# Altium footprint library INDM1350X1250X650L275X470N.PcbLib: 1 footprints
Each footprint in its own frame and in the unit in brackets; x right, y up, seen from the top. Pads: shape width x height; smd on the part's side, far side on the other; paste and mask are expansions set on the pad; w line width, h text height; cw(c..) or ccw(c..) is an arc to the next point about the centre after c.
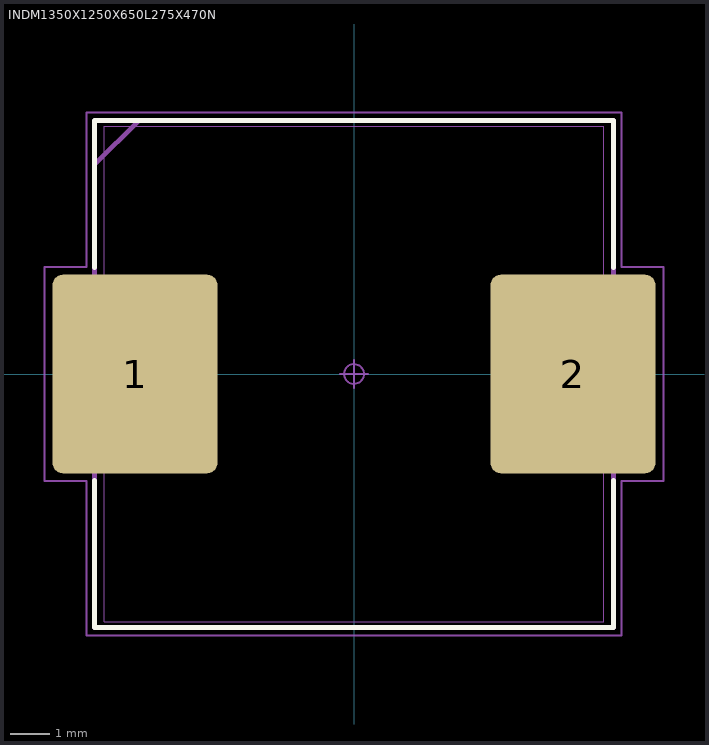
[diagram p0: the footprint, top view; thin cyan lines are the x and y axes]

## INDM1350X1250X650L275X470N [mm] "Inductor, Molded Body; 12.60 mm L X 12.50 mm W X 6.50 mm H body"
height 6.5
pads (2):
  rrect12% 4.16x5.01 smd: 1(-5.525,0) 2(5.525,0)
Top Overlay:
  lines w0.12: -6.55,-2.685 -6.55,-6.4 6.55,-6.4 6.55,-2.685 ; -6.55,2.685 -6.55,6.4 6.55,6.4 6.55,2.685
Mechanical 3:
  lines w0.12: -6.55,-6.4 -6.55,5.275 -5.425,6.4 6.55,6.4 6.55,-6.4 -6.55,-6.4
Mechanical 5:
  lines w0.025: -6.75,-2.35 -4,-2.35 -4,2.35 -6.75,2.35 -6.75,-2.35 ; -6.3,-6.25 -6.3,6.25 6.3,6.25 6.3,-6.25 -6.3,-6.25 ; 4,-2.35 4,2.35 6.75,2.35 6.75,-2.35 4,-2.35
Mechanical 7:
  circle w0.05: c0,0 r0.25
  lines w0.05: -0.35,0 0.35,0 ; 0,-0.35 0,0.35 ; -7.805,-2.705 -7.805,2.705 -6.75,2.705 -6.75,6.6 6.75,6.6 6.75,2.705 7.805,2.705 7.805,-2.705 6.75,-2.705 6.75,-6.6 -6.75,-6.6 -6.75,-2.705 -7.805,-2.705
Mechanical 9:
  text "'.Designator'" at -5.675,-0.325 h1
3D body: height 2, standoff 0.05, extent -7.8,-6.6 7.8,6.6
3D body "INDM1350X1250X650L275X470.STEP": height 6.5, standoff 0, extent -6.75,-6.25 6.75,6.25
3D body: height 1.04, standoff 0, extent -7.805,-6.6 7.805,6.6